# EAGLE library part ATSAMD21E (library squirrel)
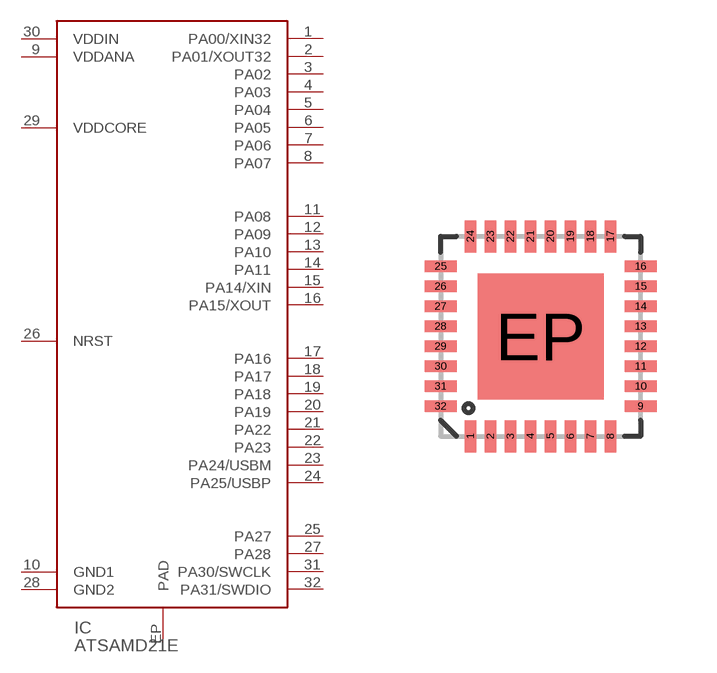
[diagram p16: symbol with the pads of QFN-32; footprint QFN-32]

Designator prefix IC

## ATSAMD21E  [QFN-32]
1  PA00/XIN32
2  PA01/XOUT32
3  PA02
4  PA03
5  PA04
6  PA05
7  PA06
8  PA07
9  VDDANA
10  GND1
11  PA08
12  PA09
13  PA10
14  PA11
15  PA14/XIN
16  PA15/XOUT
17  PA16
18  PA17
19  PA18
20  PA19
21  PA22
22  PA23
23  PA24/USBM
24  PA25/USBP
25  PA27
26  NRST
27  PA28
28  GND2
29  VDDCORE
30  VDDIN
31  PA30/SWCLK
32  PA31/SWDIO
EP  PAD

## Footprint QFN-32 (pad centres in mm)
QFN 32-Pin package w/ Thermal Pad
smd 0.285 x 0.8: 1 -1.75,-2.5; 2 -1.25,-2.5; 3 -0.75,-2.5; 4 -0.25,-2.5; 5 0.25,-2.5; 6 0.75,-2.5; 7 1.25,-2.5; 8 1.75,-2.5; 17 1.75,2.5; 18 1.25,2.5; 19 0.75,2.5; 20 0.25,2.5; 21 -0.25,2.5; 22 -0.75,2.5; 23 -1.25,2.5; 24 -1.75,2.5
smd 0.8 x 0.285: 9 2.5,-1.75; 10 2.5,-1.25; 11 2.5,-0.75; 12 2.5,-0.25; 13 2.5,0.25; 14 2.5,0.75; 15 2.5,1.25; 16 2.5,1.75; 25 -2.5,1.75; 26 -2.5,1.25; 27 -2.5,0.75; 28 -2.5,0.25; 29 -2.5,-0.25; 30 -2.5,-0.75; 31 -2.5,-1.25; 32 -2.5,-1.75
smd 3.15 x 3.15: EP 0,0